# Altium footprint library 未分类器件.PcbLib: 29 footprints (part 2 of 2)
Each footprint in its own frame and in the unit in brackets; x right, y up, seen from the top. Pads: shape width x height; smd on the part's side, far side on the other; paste and mask are expansions set on the pad; w line width, h text height; cw(c..) or ccw(c..) is an arc to the next point about the centre after c.
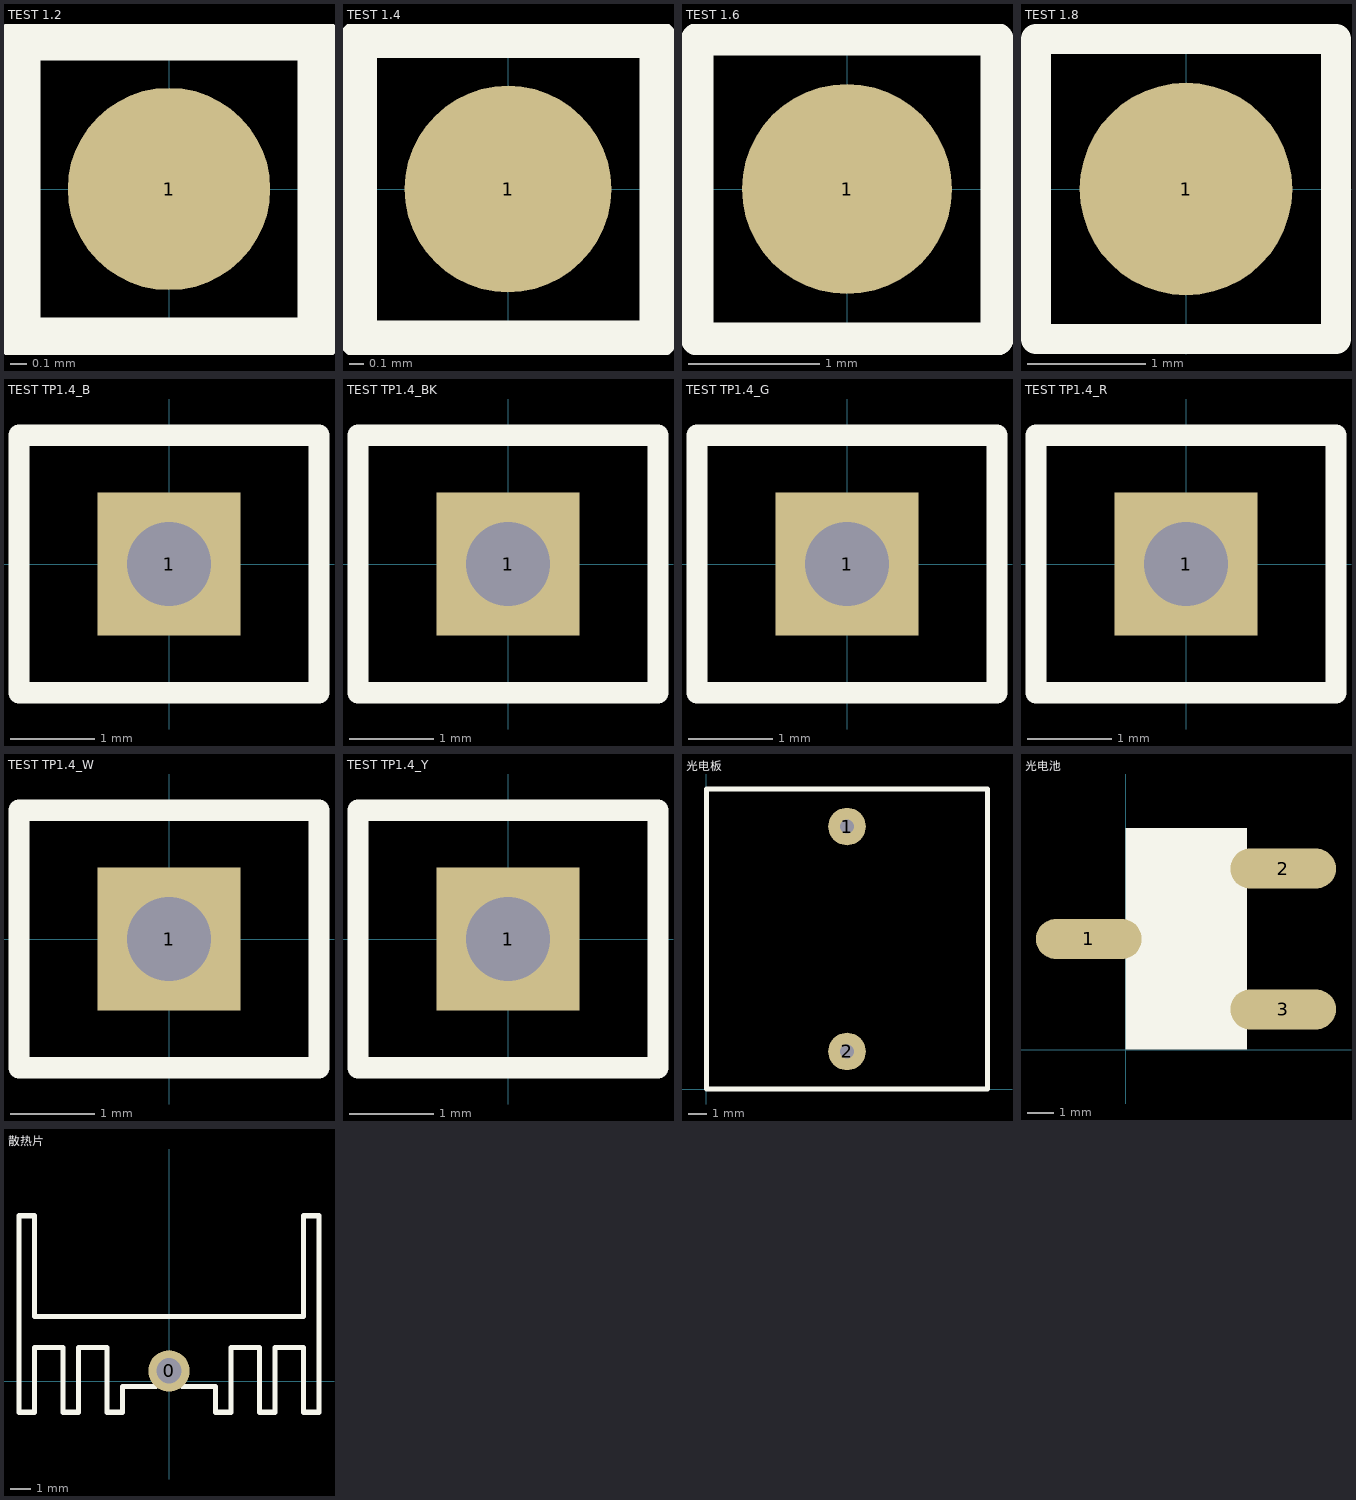
[diagram p1: the footprints below, top view; thin cyan lines are the x and y axes]

## TEST 1.2 [mm] "测试点1.2mm"
pads (1):
  round 1.2 smd: 1(0,0)
Top Overlay:
  lines w0.254: -0.889,-0.889 0.889,-0.889 0.889,0.889 -0.889,0.889 -0.889,-0.889

## TEST 1.4 [mm] "测试点1.4mm"
pads (1):
  round 1.4 smd: 1(0,0)
Top Overlay:
  lines w0.254: -1.016,-1.016 -1.016,1.016 1.016,1.016 1.016,-1.016 -1.016,-1.016

## TEST 1.6 [mm] "测试点1.6mm"
pads (1):
  round 1.6 smd: 1(0,0)
Top Overlay:
  lines w0.254: -1.143,-1.143 1.143,-1.143 1.143,1.143 -1.143,1.143 -1.143,-1.143

## TEST 1.8 [mm] "测试点1.8mm"
pads (1):
  round 1.8 smd: 1(0,0)
Top Overlay:
  lines w0.254: -1.27,-1.27 -1.27,1.27 1.27,1.27 1.27,-1.27 -1.27,-1.27

## TEST TP1.4_B [mm] "蓝色，测试环"
pads (1):
  rect 1.7x1.7 hole 1: 1(0,0)
Top Overlay:
  lines w0.254: -1.778,-1.524 1.778,-1.524 1.778,1.524 -1.778,1.524 -1.778,-1.524
3D body "TEST 3.5R_B.STEP": height 5.41, standoff -3.15, extent -1.675,-1.4 1.675,1.4

## TEST TP1.4_BK [mm] "黑色，测试环"
pads (1):
  rect 1.7x1.7 hole 1: 1(0,0)
Top Overlay:
  lines w0.254: -1.778,-1.524 1.778,-1.524 1.778,1.524 -1.778,1.524 -1.778,-1.524
3D body "TEST 3.5R_BK.STEP": height 5.41, standoff -3.15, extent -1.675,-1.4 1.675,1.4

## TEST TP1.4_G [mm] "绿色，测试环"
pads (1):
  rect 1.7x1.7 hole 1: 1(0,0)
Top Overlay:
  lines w0.254: -1.778,-1.524 -1.778,1.524 1.778,1.524 1.778,-1.524 -1.778,-1.524
3D body "TEST 3.5R_G.STEP": height 5.41, standoff -3.15, extent -1.675,-1.4 1.675,1.4

## TEST TP1.4_R [mm] "红色，测试环"
pads (1):
  rect 1.7x1.7 hole 1: 1(0,0)
Top Overlay:
  lines w0.254: -1.778,-1.524 -1.778,1.524 1.778,1.524 1.778,-1.524 -1.778,-1.524
3D body "TEST 3.5R_R.STEP": height 5.41, standoff -3.15, extent -1.675,-1.4 1.675,1.4

## TEST TP1.4_W [mm] "白色，测试环"
pads (1):
  rect 1.7x1.7 hole 1: 1(0,0)
Top Overlay:
  lines w0.254: -1.778,-1.524 1.778,-1.524 1.778,1.524 -1.778,1.524 -1.778,-1.524
3D body "TEST 3.5R_W.STEP": height 5.41, standoff -3.15, extent -1.675,-1.4 1.675,1.4

## TEST TP1.4_Y [mm] "黄色，测试环"
pads (1):
  rect 1.7x1.7 hole 1: 1(0,0)
Top Overlay:
  lines w0.254: -1.778,-1.524 -1.778,1.524 1.778,1.524 1.778,-1.524 -1.778,-1.524
3D body "TEST 3.5R_Y.STEP": height 5.41, standoff -3.15, extent -1.675,-1.4 1.675,1.4

## 光电板 [mm]
pads (2):
  round 2 hole 0.762: 1(7.5,14) 2(7.5,2)
Top Overlay:
  lines w0.254: 0,0 0,16 4.75,16 10.25,16 15,16 15,0 0,0

## 光电池 [mil]
pads (3):
  oval 157.48x60 all layers, no hole: 1(-55,165) 2(235,270) 3(235,60)
Top Overlay:
  rectangle: 0,0 181.1,330.71

## 散热片 [mil]
pads (1):
  round 80 hole 49: 0(0,20)
Top Overlay:
  lines w10: -290,-60 -290,320 -260,320 -260,125 260,125 260,320 290,320 290,-60 260,-60 260,65 205,65 205,-60 175,-60 175,65 120,65 120,-60 90,-60 90,-10 25,-10 ccw(c0,0) -25,-10 -90,-10 -90,-60 -120,-60 -120,65 -175,65 -175,-60 -205,-60 -205,65 -260,65 -260,-60 -290,-60
3D body "SW3dPS-heatsink TO126.STEP": height 989.25, standoff -144.61, extent -290.97,-103.66 290.97,321.59